# Altium schematic symbol library Button.SchLib: 1 symbol
Pins are listed as number, name and electrical type; pins without a type are passive.

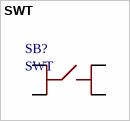
[diagram p0: symbol SWT]

## SWT
designator SB?
footprint SWT-6
footprint SWT-9
pins: 1, 2, 3, 4